# EAGLE library part PCM1794A (library _mtvl_ic)
132dB SNR Highest Performance Stereo DAC (H/W Control) http://www.ti.com/lit/gpn/pcm1794a
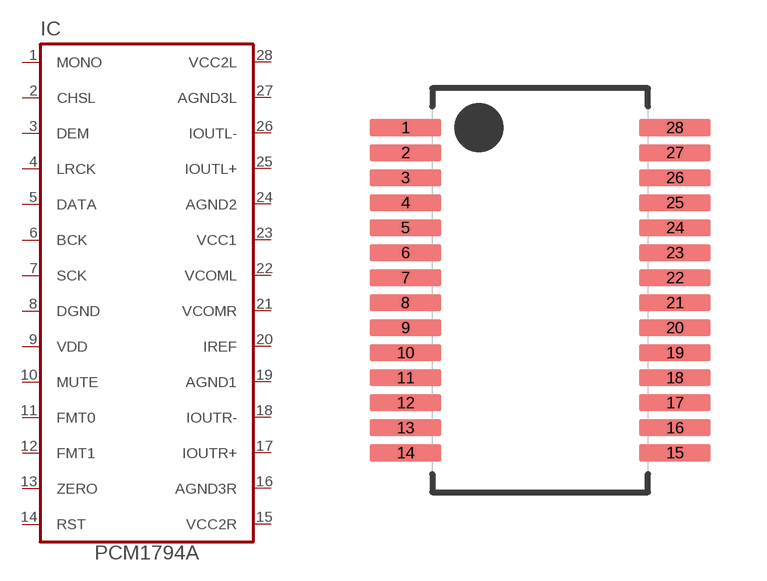
[diagram p32: symbol with the pads of SSOP-28-A; footprint SSOP-28-A]

Designator prefix IC

## PCM1794A (MPN: PCM1794ADB; OC_FARNELL: 1755014; OC_NEWARK: 54K0199; PACKAGE: SSOP-28; SUPPLIER: Texas Instruments)  [SSOP-28-A]
1  MONO  in
2  CHSL  in
3  DEM  in
4  LRCK  in
5  DATA  in
6  BCK  in
7  SCK  in
8  DGND  pas
9  VDD  pwr
10  MUTE  in
11  FMT0  in
12  FMT1  in
13  ZERO  out
14  RST  in
15  VCC2R  pwr
16  AGND3R  pas
17  IOUTR+  out
18  IOUTR-  out
19  AGND1  pas
20  IREF  out
21  VCOMR  in
22  VCOML  in
23  VCC1  pwr
24  AGND2  pas
25  IOUTL+  out
26  IOUTL-  out
27  AGND3L  pas
28  VCC2L  pwr

## Footprint SSOP-28-A (pad centres in mm)
SSOP-28
smd 1.85 x 0.44: 1 -3.5,4.225; 2 -3.5,3.575; 3 -3.5,2.925; 4 -3.5,2.275; 5 -3.5,1.625; 6 -3.5,0.975; 7 -3.5,0.325; 8 -3.5,-0.325; 9 -3.5,-0.975; 10 -3.5,-1.625; 11 -3.5,-2.275; 12 -3.5,-2.925; 13 -3.5,-3.575; 14 -3.5,-4.225; 15 3.5,-4.225; 16 3.5,-3.575; 17 3.5,-2.925; 18 3.5,-2.275; 19 3.5,-1.625; 20 3.5,-0.975; 21 3.5,-0.325; 22 3.5,0.325; 23 3.5,0.975; 24 3.5,1.625; 25 3.5,2.275; 26 3.5,2.925; 27 3.5,3.575; 28 3.5,4.225